# Altium footprint library MOLEX-08_180.PcbLib: 1 footprints
Each footprint in its own frame and in the unit in brackets; x right, y up, seen from the top. Pads: shape width x height; smd on the part's side, far side on the other; paste and mask are expansions set on the pad; w line width, h text height; cw(c..) or ccw(c..) is an arc to the next point about the centre after c.
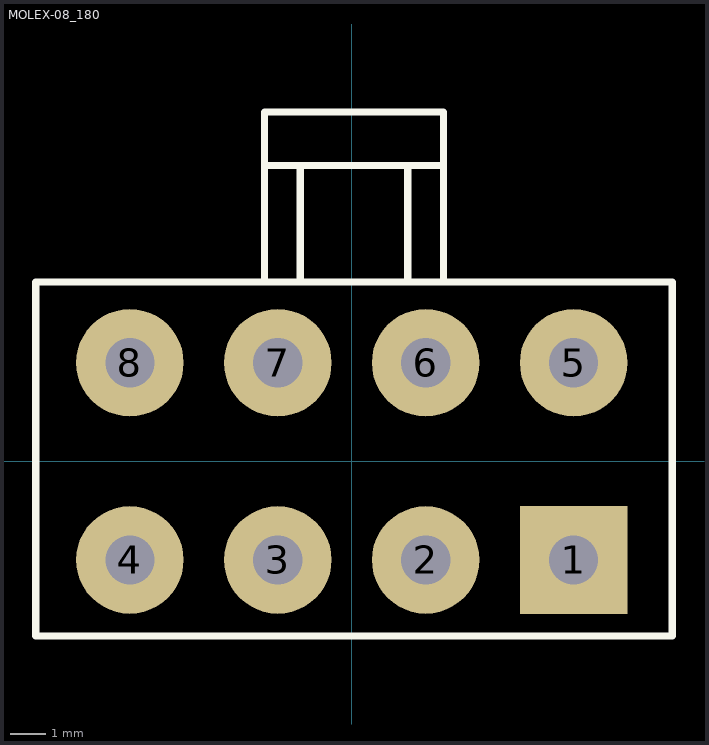
[diagram p0: the footprint, top view; thin cyan lines are the x and y axes]

## MOLEX-08_180 [mil]
pads (8):
  rect 120x120 hole 55: 1(247.5,-110)
  round 120 hole 55: 2(82.5,-110) 3(-82.5,-110) 4(-247.5,-110) 5(247.5,110) 6(82.5,110) 7(-82.5,110) 8(-247.5,110)
TopOverlay:
  lines w8: -97.5,200 -97.5,390 102.5,390 102.5,200 ; -97.5,330 97.5,330 ; -57.5,200 -57.5,330 ; 62.5,200 62.5,330 ; -352.5,-195 -352.5,200 137.5,200 357.5,200 357.5,-195 -352.5,-195
3D body: height 507.87, standoff -133.88, extent -364.17,-205.71 364.18,225.39